# Altium schematic symbol library R-1206.SchLib: 1 symbol
Pins are listed as number, name and electrical type; pins without a type are passive.

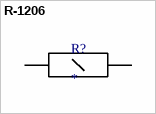
[diagram p0: symbol R-1206]

## R-1206
designator R?
R-1206
footprint CAP_X7R_1206_AVX
pins: 1, 2